# Altium footprint library DATN_LIB.PcbLib: 75 footprints (part 1 of 5)
Each footprint in its own frame and in the unit in brackets; x right, y up, seen from the top. Pads: shape width x height; smd on the part's side, far side on the other; paste and mask are expansions set on the pad; w line width, h text height; cw(c..) or ccw(c..) is an arc to the next point about the centre after c.
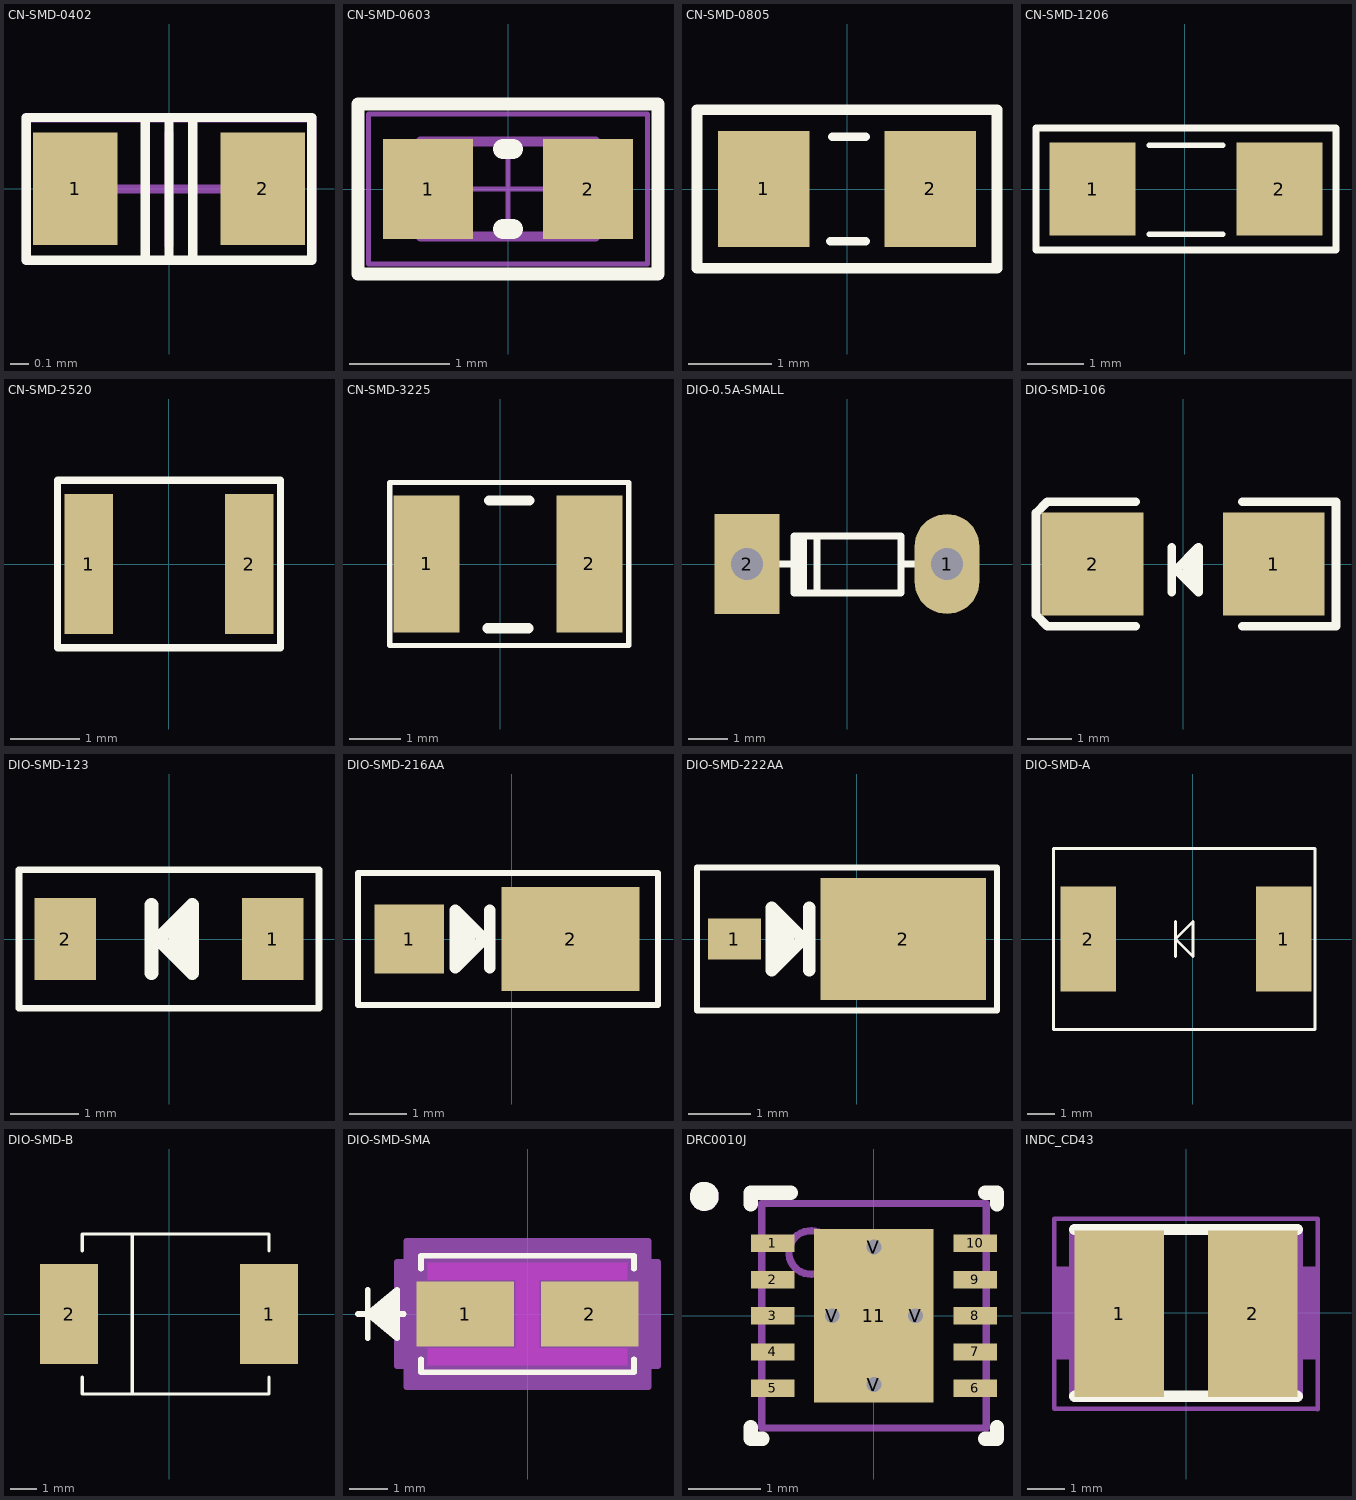
[diagram p0: the footprints below, top view; thin cyan lines are the x and y axes]

## CN-SMD-0402 [mm]
pads (2):
  rect 0.45x0.6 smd: 1(-0.5,0) 2(0.5,0)
Top Overlay:
  lines w0.05: -0.127,0.381 -0.127,-0.381 0,-0.381 ; 0,-0.381 0,0.381 ; 0,-0.381 0.127,-0.381 0.127,0.381 0,0.381 ; 0,0.381 0.762,0.381 0.762,-0.381 -0.762,-0.381 -0.762,0.381 0,0.381
Mechanical 15:
  lines w0.05: -0.3,0 0.3,0 ; 0,-0.3 0,0.3 ; -0.762,-0.381 0.762,-0.381 0.762,0.381 -0.762,0.381 -0.762,-0.381
3D body "User Library-0402 SMD Capacitor.step": height 0.2, standoff 0, extent -0.5,-0.3 0.5,0.3

## CN-SMD-0603 [mm]
pads (2):
  rect 0.9x1 smd: 1(-0.8,0) 2(0.8,0)
Top Overlay:
  lines w0.127: -1.5,-0.85 1.5,-0.85 1.5,0.85 -1.5,0.85 -1.5,-0.85
  lines w0.2: -0.05,-0.4 0.05,-0.4 ; -0.05,0.4 0.05,0.4
Mechanical 13:
  lines w0.1: -0.875,-0.475 0.875,-0.475 0.875,0.475 -0.875,0.475 -0.875,-0.475
Mechanical 15:
  lines w0.05: -0.475,0 0.475,0 ; 0,-0.475 0,0.475 ; -1.397,-0.75 1.397,-0.75 1.397,0.75 -1.397,0.75 -1.397,-0.75
3D body "User Library-0603 SMD Capacitor.step": height 0.3, standoff 0, extent -0.8,-0.4 0.8,0.4

## CN-SMD-0805 [mm]
pads (2):
  rect 1.1x1.397 smd: 1(-1,0) 2(1,0)
Top Overlay:
  lines w0.102: -0.2,-0.625 0.225,-0.625 ; -0.175,0.625 0.225,0.625
  lines w0.127: -1.8,-0.95 -1.8,0.95 1.8,0.95 1.8,-0.95 -1.8,-0.95
3D body "0805 SMD Capacitor.step": height 0.8, standoff 0.02, extent -1,-0.625 1,0.625

## CN-SMD-1206 [mil]
pads (2):
  rect 60x65 smd: 1(-64,0) 2(66,0)
Top Overlay:
  lines w4: -24.61,-31.5 26.57,-31.5 ; -24.61,30.51 26.57,30.51
  lines w5: -103.35,-42.32 -103.35,42.32 105.31,42.32 105.31,-42.32 -103.35,-42.32
3D body "1206 SMD Capacitor.step": height 40.05, standoff 0.6, extent -62.98,-31.49 63,31.51

## CN-SMD-2520 [mm] "TOKO INDUCTOR DFE252012 SERIES"
pads (2):
  rect 0.7x2 smd mask+0.051: 1(-1.15,0) 2(1.15,0)
Top Overlay:
  lines w0.102: -1.6,-1.2 -1.6,1.2 -1.5,1.2 1.6,1.2 1.6,-1.2 -1.5,-1.2 -1.6,-1.2
3D body: height 1.2, standoff 0, extent -1.15,-0.9 1.15,0.9
3D body: height 1.21, standoff 0, extent -1.25,-1 -0.85,1
3D body: height 1.21, standoff 0, extent 0.85,-1 1.25,1

## CN-SMD-3225 [mm] "Chip Capacitor, Body 3.2x2.5mm, IPC Medium Density"
height 1.35
pads (2):
  rect 1.3x2.7 smd: 1(-1.445,0) 2(1.755,0)
Top Overlay:
  lines w0.1: -2.17,-1.6 2.53,-1.6 2.53,1.6 -2.17,1.6 -2.17,-1.6
  lines w0.2: -0.245,-1.265 0.555,-1.265 ; -0.22,1.25 0.58,1.25
3D body "SMD Capacitor 3225.step": height 1, standoff 0, extent -1.445,-1.25 1.755,1.25

## DIO-0.5A-SMALL [mil] "Diode muoi, W 80mil, L 300mil"
height 80
pads (2):
  oval 65x100 hole 32: 1(100,0)
  rect 65x100 hole 32: 2(-100,0)
Top Overlay:
  rectangle: -55,-30 -40,25
  lines w7: -80,0 -53,0 ; -30,-29 -30,28 ; 54,0 80,0 ; -53,-29 54,-29 54,28 -53,28 -53,-29
3D body "SW3dPS-1N4148.STEP": height 61.22, standoff -50, extent -108.5,-32.96 108.5,32

## DIO-SMD-106 [mil]
pads (2):
  rect 90x90.55 smd: 1(80,0) 2(-80,0)
Top Overlay:
  lines w7.87: -42.24,-55 -120,-55 -130,-45 -130,45 -120,55 -42.24,55 ; -10.12,-24.68 -10.12,14.69 ; 3.66,-10.91 3.66,0.91 ; 9.57,-16.81 9.57,6.81 ; 52.24,-55 135,-55 135,55 52.24,55 ; -6.18,-5 13.5,-24.68 13.5,14.69 -6.18,-5
Mechanical 1:
  lines w3.94: -2.87,0 12.87,0 ; 5,-7.87 5,7.87
3D body "User Library-DO-214Aa SMA.step": height 94.69, standoff 0, extent -98.7,-50.27 106.03,52.09

## DIO-SMD-123 [mm]
pads (2):
  rect 0.9x1.2 smd: 1(1.524,0) 2(-1.524,0)
Top Overlay:
  lines w0.102: -2.2,-1.016 -2.2,1.016 2.2,1.016 2.2,-1.016 -2.2,-1.016
  lines w0.2: -0.257,-0.5 -0.257,0.5 ; 0.093,-0.15 0.093,0.15 ; 0.243,-0.3 0.243,0.3 ; -0.157,0 0.343,-0.5 0.343,0.5 -0.157,0
3D body "User Library-SOD-123.step": height 1.25, standoff 0, extent -1.756,-0.8 1.942,0.8

## DIO-SMD-216AA [mm] "DO216AA ST-MITE"
pads (2):
  rect 1.2x1.2 smd: 1(-1.778,0)
  rect 2.4x1.8 smd: 2(1.022,0)
Top Overlay:
  lines w0.102: -2.667,-1.143 2.54,-1.143 2.54,1.143 -2.667,1.143 -2.667,-1.143
  lines w0.2: -0.878,-0.3 -0.878,0.3 ; -0.728,-0.15 -0.728,0.15 ; -0.378,-0.5 -0.378,0.5 ; -0.978,-0.5 -0.978,0.5 -0.478,0 -0.978,-0.5
3D body "User Library-microsemi_powermite.step": height 1.02, standoff 0, extent -1.994,-0.955 1.766,0.955

## DIO-SMD-222AA [mm] "DO216AA ST-MITE"
pads (2):
  rect 0.85x0.65 smd: 1(-1.959,0)
  rect 2.65x1.95 smd: 2(0.741,0)
Top Overlay:
  lines w0.102: -2.559,-1.143 -2.559,1.143 2.241,1.143 2.241,-1.143 -2.559,-1.143
  lines w0.2: -1.259,-0.3 -1.259,0.3 ; -1.109,-0.15 -1.109,0.15 ; -0.759,-0.5 -0.759,0.5 ; -1.359,-0.5 -0.859,0 -1.359,0.5 -1.359,-0.5
3D body "User Library-DO216-AA.step": height 0.85, standoff 0, extent -2.154,-0.954 1.646,0.954

## DIO-SMD-A [mil]
pads (2):
  rect 80x150 smd: 1(130,0) 2(-150,0)
Top Overlay:
  lines w4: -180,129.92 -200,129.92 ; -25,-25 -25,0 ; -25,25 -25,0 ; 150,-129.92 175,-129.92 ; -200,129.92 175,129.92 175,-129.92 ; -200,129.92 -200,-129.92 175,-129.92 ; -25,0 0,25 0,0 0,-25 -25,0
3D body "User Library-Diode Molded 5025Body.step": height 83.95, standoff -1.08, extent -165.51,-118.11 145.51,118.11

## DIO-SMD-B [mm] "Magnetic-Core Inductor with Winding Polarity Marking; 2 Leads"
pads (2):
  rect 2.2x3.81 smd: 1(3.81,0) 2(-3.81,0)
Top Overlay:
  lines w0.127: -3.302,-2.413 -3.302,-3.048 3.81,-3.048 3.81,-2.413 ; -3.302,2.413 -3.302,3.048 3.81,3.048 3.81,2.413 ; -1.397,-3.048 -1.397,3.048
Mechanical 1:
  lines w0.025: -3.302,-3.048 3.81,-3.048 ; -3.302,3.048 3.81,3.048
3D body "User Library-Diode Molded 5025Body.step": height 2.13, standoff -0.03, extent -3.937,-3.079 3.963,2.921

## DIO-SMD-SMA [mm]
pads (2):
  rect 2.549x1.702 smd paste+0 mask+0: 1(-1.63,0) 2(1.63,0)
Top Layer keep-out:
  region: -2.603,-1.346 -2.603,-0.902 2.603,-0.902 2.603,-1.346
  region: -2.603,0.902 -2.603,1.346 2.603,1.346 2.603,0.902
  region: -0.305,-0.902 -0.305,0.902 0.305,0.902 0.305,-0.902
Top Overlay:
  lines w0.152: -4.432,0 -3.237,0 ; -4.178,-0.635 -4.178,0.635 ; -3.416,-0.508 -4.178,0 ; -3.416,-0.381 -4.178,0 ; -3.416,-0.254 -4.178,0 ; -3.416,-0.127 -4.178,0 ; -3.416,0.127 -4.178,0 ; -3.416,0.254 -4.178,0 ; -3.416,0.381 -4.178,0 ; -3.416,0.508 -4.178,0 ; -2.781,-1.184 -2.781,-1.524 2.781,-1.524 2.781,-1.184 ; -2.781,1.184 -2.781,1.524 2.781,1.524 2.781,1.184 ; -4.178,0 -3.416,-0.635 -3.416,0.635 -4.178,0
  text ".Designator" at -3.492,-0.635 h1.27
Keep-Out Layer:
  region: -0.305,-0.902 -0.305,0.902 0.305,0.902 0.305,-0.902
Mechanical 13:
  lines w0.025: -4.432,0 -3.162,0 ; -4.178,-0.635 -4.178,0.635 ; -3.416,-0.508 -4.178,0 ; -3.416,-0.381 -4.178,0 ; -3.416,-0.254 -4.178,0 ; -3.416,-0.127 -4.178,0 ; -3.416,0.127 -4.178,0 ; -3.416,0.254 -4.178,0 ; -3.416,0.381 -4.178,0 ; -3.416,0.508 -4.178,0 ; -4.178,0 -3.416,-0.635 -3.416,0.635 -4.178,0 ; -2.654,-1.397 -2.654,1.397 2.654,1.397 2.654,-1.397 -2.654,-1.397
  text ".Designator" at -3.492,-0.635 h1.27
Mechanical 15:
  region: -3.162,-1.359 -3.412,-1.359 -3.412,1.359 -3.162,1.359 -3.162,1.905 3.162,1.905 3.162,1.359 3.412,1.359 3.412,-1.359 3.162,-1.359 3.162,-1.905 -3.162,-1.905
  lines w0.152: -3.412,-1.359 -3.162,-1.359 -3.162,-1.905 3.162,-1.905 3.162,-1.359 3.412,-1.359 3.412,1.359 3.162,1.359 3.162,1.905 -3.162,1.905 -3.162,1.359 -3.412,1.359 -3.412,-1.359
3D body "DO-214AC_RTN.step": height 2.36, standoff 0, extent -2.654,-1.397 2.654,1.397

## DRC0010J [mm]
pads (15):
  rect 0.6x0.24 smd paste+0 mask+0.051: 1(-1.4,1) 2(-1.4,0.5) 3(-1.4,0) 4(-1.4,-0.5) 5(-1.4,-1) 6(1.4,-1) 7(1.4,-0.5) 8(1.4,0) 9(1.4,0.5) 10(1.4,1)
  rect 1.65x2.4 smd paste-1.187 mask+0.051: 11(0,0)
  round 0.5 hole 0.203 paste-2539.97 mask+0.051: V(-0.575,0) V(0,-0.95) V(0,0.95) V(0.575,0)
Top Overlay:
  circle w0.2: c-2.345,1.65 r0.1
  lines w0.2: -1.7,-1.54 -1.7,-1.7 -1.54,-1.7 ; -1.7,1.54 -1.7,1.7 -1.15,1.7 ; 1.54,-1.7 1.7,-1.7 1.7,-1.54 ; 1.54,1.7 1.7,1.7 1.7,1.54
  text ".Designator" at -3.492,-0.635 h1.27
Top Paste:
  region: -0.75,-0.1 -0.75,-1.16 0.75,-1.16 0.75,-0.1
  region: -0.75,1.16 -0.75,0.1 0.75,0.1 0.75,1.16
Mechanical 13:
  circle w0.2: c-2.345,1.65 r0.1
  circle w0.1: c-0.875,0.875 r0.3
  lines w0.1: -1.55,-1.55 -1.55,1.55 1.55,1.55 1.55,-1.55 -1.55,-1.55
  text ".Designator" at -3.492,-0.635 h1.27
3D body "TPS63001DRCR.STEP": height 1, standoff 0, extent -1.5,-1.5 1.5,1.5

## INDC_CD43 [mm]
pads (2):
  rect 2.42x4.5 smd: 1(-1.8,-0.025) 2(1.8,-0.025)
Top Overlay:
  lines w0.305: -3,-2.25 3,-2.25 ; -3,2.25 3,2.25
Mechanical 13:
  region: -3,-1.25 -3.5,-1.25 -3.5,1.25 -3,1.25
  region: 3.5,-1.252 3.004,-1.252 3.004,1.25 3.5,1.25
  lines w0.305: -3,-2.25 -3,2.25 ; 3,-2.25 3,2.25
Mechanical 15:
  lines w0.127: -3.556,-2.591 -3.549,-2.588 3.533,-2.588 3.556,-2.599 3.556,2.54 -3.556,2.54 -3.556,-2.591
3D body "CD43_inductor.STEP": height 3.2, standoff 0, extent -2.169,-2.275 2.219,2.225